# Altium schematic symbol library switches.SchLib: 4 symbols
Pins are listed as number, name and electrical type; pins without a type are passive.

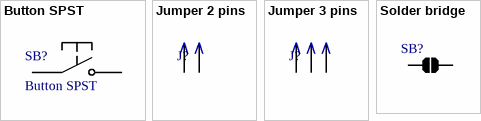
[diagram p0: symbols Button SPST to Solder bridge]

## Button SPST
designator SB?
footprint BUTTON_SMD_6x6 (Simple quad button SMD 6x6mm)
footprint BUTTON_SMD_3x6; pin to pad 3>1 4>2
pins: 1, 2, 3, 4

## Jumper 2 pins
designator J?
Jumper 2 pins
footprint HDR_M_1X2_2.54 (Pitch 2.54)
pins: 1, 2

## Jumper 3 pins
designator J?
Jumper 3 pins
footprint HDR_M_1X3_2.54 (Pitch 2.54)
pins: 1, 2, 3

## Solder bridge
designator SB?  (no BOM)
Solder bridge
footprint SOLDER_BRIDGE (Solder bridge)
pins: 1, 2